# Altium footprint library WE-HEPA.PcbLib: 2 footprints
Each footprint in its own frame and in the unit in brackets; x right, y up, seen from the top. Pads: shape width x height; smd on the part's side, far side on the other; paste and mask are expansions set on the pad; w line width, h text height; cw(c..) or ccw(c..) is an arc to the next point about the centre after c.
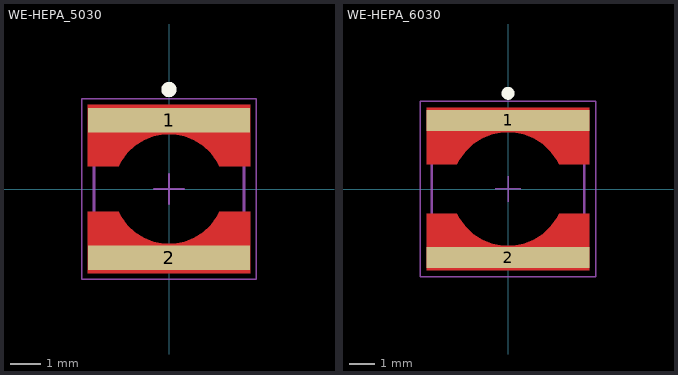
[diagram p0: the footprints below, top view; thin cyan lines are the x and y axes]

## WE-HEPA_5030 [mm] "SMT Power Inductor, 2-leads, body 4.90 x 4.90mm"
height 2.85
pads (2):
  rect 5.3x0.8 smd paste-2539.97 mask+0.102: 1(0,2.25) 2(0,-2.25)
Top Layer:
  region: -2.65,0.75 -2.65,2.75 2.65,2.75 2.65,0.75 1.636,0.75 1.558,0.902 1.359,1.18 1.112,1.416 0.824,1.6 0.507,1.727 0.171,1.792 -0.171,1.792 -0.507,1.727 -0.824,1.6 -1.112,1.416 -1.359,1.18 -1.558,0.902 -1.636,0.75
  region: -2.65,-0.75 -2.65,-2.75 2.65,-2.75 2.65,-0.75 1.636,-0.75 1.558,-0.902 1.359,-1.18 1.112,-1.416 0.824,-1.6 0.507,-1.727 0.171,-1.792 -0.171,-1.792 -0.507,-1.727 -0.824,-1.6 -1.112,-1.416 -1.359,-1.18 -1.558,-0.902 -1.636,-0.75
Top Overlay:
  circle w0.25: c0,3.25 r0.125
Top Component Outline:
  circle w0.1: c-1.65,1.65 r0.4
  lines w0.1: -2.45,-2.45 2.45,-2.45 2.45,2.45 -2.45,2.45 -2.45,-2.45
Top Courtyard:
  lines w0.05: -2.85,-2.95 2.85,-2.95 2.85,2.95 -2.85,2.95 -2.85,-2.95
Top Component Center:
  lines w0.05: -0.5,0 0.5,0 ; 0,-0.5 0,0.5
Top Designator (Mech19):
  text ".Designator" at -5.998,-0.4 h1.2
3D body "74408053xxx.stp": height 2.85, standoff 0, extent -2.45,-2.45 2.45,2.45

## WE-HEPA_6030 [mm] "SMT Power Inductor, 2-leads, body 5.90 x 5.90mm"
height 2.85
pads (2):
  rect 6.3x0.8 smd paste-2539.97 mask+0.102: 1(0,2.65) 2(0,-2.65)
Top Layer:
  region: -3.15,0.95 -1.984,0.95 -1.887,1.132 -1.643,1.463 -1.341,1.744 -0.993,1.963 -0.61,2.114 -0.206,2.19 0.206,2.19 0.61,2.114 0.993,1.963 1.342,1.744 1.643,1.463 1.887,1.132 1.984,0.95 3.15,0.95 3.15,3.15 -3.15,3.15
  region: -3.15,-0.95 -1.984,-0.95 -1.887,-1.132 -1.643,-1.463 -1.341,-1.744 -0.993,-1.963 -0.61,-2.114 -0.206,-2.19 0.206,-2.19 0.61,-2.114 0.993,-1.963 1.342,-1.744 1.643,-1.463 1.887,-1.132 1.984,-0.95 3.15,-0.95 3.15,-3.15 -3.15,-3.15
Top Overlay:
  circle w0.25: c0,3.7 r0.125
Top Component Outline:
  circle w0.1: c-2.15,2.15 r0.4
  lines w0.1: -2.95,-2.95 -2.95,2.95 2.95,2.95 2.95,-2.95 -2.95,-2.95
Top Courtyard:
  lines w0.05: -3.4,-3.4 -3.4,3.4 3.4,3.4 3.4,-3.4 -3.4,-3.4
Top Component Center:
  lines w0.05: -0.5,0 0.5,0 ; 0,-0.5 0,0.5
Top Designator (Mech19):
  text ".Designator" at -7.498,-0.5 h1.5
3D body "74408063xxx.stp": height 2.85, standoff 0, extent -2.95,-2.95 2.95,2.95